# EAGLE library part MIC5211-LXYM6-TR (library MIC5211-LXYM6-TR)
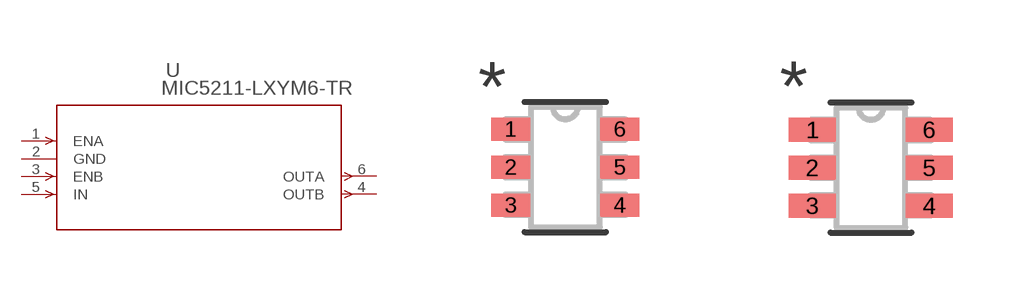
[diagram p0: symbol with the pads of SOT-23-6_M6; footprints SOT-23-6_M6, SOT-23-6_M6-M]

Designator prefix U

## MIC5211-LXYM6-TR (BUILT_BY: EMA_Jessica; COPYRIGHT: Copyright (C) 2018 Accelerated Designs. All rights reserved; MANUFACTURER_PART_NUMBER: MIC5211-LXYM6-TR; VENDOR: Microchip)  [SOT-23-6_M6]
1  ENA  in
2  GND  pwr
3  ENB  in
4  OUTB  out
5  IN  in
6  OUTA  out

## MIC5211-LXYM6-TRSOT-23-6_M6-M (BUILT_BY: EMA_Jessica; COPYRIGHT: Copyright (C) 2018 Accelerated Designs. All rights reserved; MANUFACTURER_PART_NUMBER: MIC5211-LXYM6-TR; VENDOR: Microchip)  [SOT-23-6_M6-M]
Pads as for SOT-23-6_M6

## MIC5211-LXYM6-TRSOT-23-6_M6-L (BUILT_BY: EMA_Jessica; COPYRIGHT: Copyright (C) 2018 Accelerated Designs. All rights reserved; MANUFACTURER_PART_NUMBER: MIC5211-LXYM6-TR; VENDOR: Microchip)  [SOT-23-6_M6-L]
Pads as for SOT-23-6_M6

## Footprint SOT-23-6_M6 (pad centres in mm)
smd 0.972 x 0.568: 1 -1.362,0.95; 2 -1.362,0; 3 -1.362,-0.95; 4 1.362,-0.95; 5 1.362,0; 6 1.362,0.95

## Footprint SOT-23-6_M6-M (pad centres in mm)
smd 1.172 x 0.608: 1 -1.462,0.95; 2 -1.462,0; 3 -1.462,-0.95; 4 1.462,-0.95; 5 1.462,0; 6 1.462,0.95

## Footprint SOT-23-6_M6-L (pad centres in mm)
smd 0.772 x 0.528: 1 -1.262,0.95; 2 -1.262,0; 3 -1.262,-0.95; 4 1.262,-0.95; 5 1.262,0; 6 1.262,0.95